# EAGLE library part BQ24160 (library laforge)
2.5A, Dual-Input, Single ell Switchmode Li-Ion Battery Charger with Power Path Management and I2C Interface
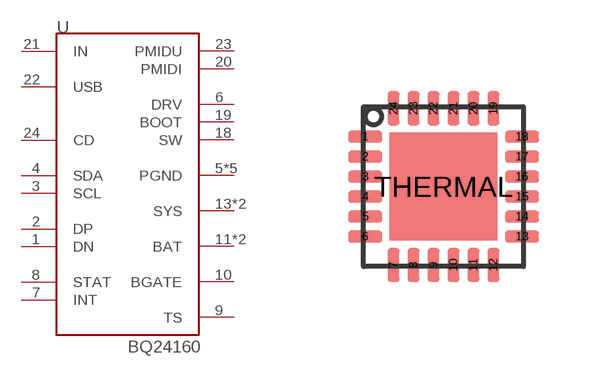
[diagram p33: symbol with the pads of RGE_S_PVQFN_N24; footprint RGE_S_PVQFN_N24]

Designator prefix -

## BQ24160RGER (OC_DIGIKEY: 296-30603-1-ND)  [RGE_S_PVQFN_N24]
1  DN
2  DP
3  SCL
4  SDA
5  PGND
6  DRV
7  INT
8  STAT
9  TS
10  BGATE
11  BAT
12  BAT
13  SYS
14  SYS
15  PGND
16  PGND
17  PGND
18  SW
19  BOOT
20  PMIDI
21  IN
22  USB
23  PMIDU
24  CD
THERMAL  PGND

## Footprint RGE_S_PVQFN_N24 (pad centres in mm)
Texas Instruments RGE (S-PVQFN-N24)
smd 0.85 x 0.3: 1 -1.96,1.25; 2 -1.96,0.75; 3 -1.96,0.25; 4 -1.96,-0.25; 5 -1.96,-0.75; 6 -1.96,-1.25; 13 1.96,-1.25; 14 1.96,-0.75; 15 1.96,-0.25; 16 1.96,0.25; 17 1.96,0.75; 18 1.96,1.25
smd 0.3 x 0.85: 7 -1.25,-1.96; 8 -0.75,-1.96; 9 -0.25,-1.96; 10 0.25,-1.96; 11 0.75,-1.96; 12 1.25,-1.96; 19 1.25,1.96; 20 0.75,1.96; 21 0.25,1.96; 22 -0.25,1.96; 23 -0.75,1.96; 24 -1.25,1.96
smd 2.7 x 2.7: THERMAL 0,0